# Altium integrated library AD5207BRUZ10.IntLib: 1 symbol
Pins are listed as number, name and electrical type; pins without a type are passive.

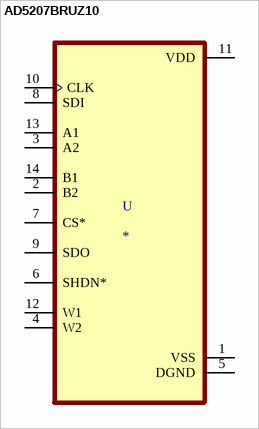
[diagram p0: symbol AD5207BRUZ10]

## AD5207BRUZ10
designator U
Digital Potentiometer 10kOhm 256POS Volatile Linear Automotive 14-Pin TSSOP Tube; MP: AD5207BRUZ10; MF: Analog Devices; Availability: Unavailable; Package: TSSOP-14 Analog Devices; Value: *; Price: None; SnapEDA_Link: https://www.snapeda.com/parts/AD5207BRUZ10/Analog%20Devices/view-part/4335200/?ref=snap
footprint SOP65P640X120-14N
pins: 1 VSS (power), 2 B2, 3 A2, 4 W2, 5 DGND (power), 6 SHDN*, 7 CS*, 8 SDI, 9 SDO, 10 CLK, 11 VDD (power), 12 W1, 13 A1, 14 B1